# EAGLE library part DB9-MALE-RA (library aquarius)
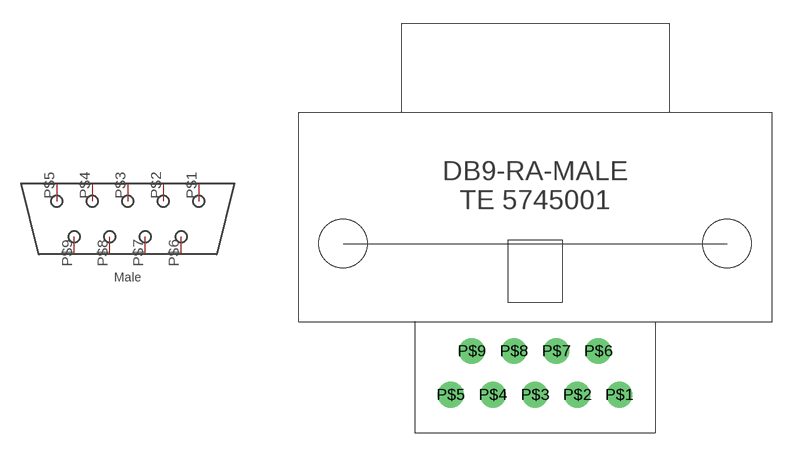
[diagram p4: symbol with the pads of DB9-MALE-RA; footprint DB9-MALE-RA]

Designator prefix -

## DB9-MALE-RA  [DB9-MALE-RA]
P$1  P$1
P$2  P$2
P$3  P$3
P$4  P$4
P$5  P$5
P$6  P$6
P$7  P$7
P$8  P$8
P$9  P$9

## Footprint DB9-MALE-RA (pad centres in mm)
drill 0.75 pad 1.676: P$1 5.537,-9.83; P$2 2.794,-9.83; P$3 0.051,-9.83; P$4 -2.692,-9.83; P$5 -5.436,-9.83; P$6 4.166,-6.985; P$7 1.422,-6.985; P$8 -1.321,-6.985; P$9 -4.064,-6.985